# EAGLE library part 62402221722 (library Wurth_Connectors_WR-WTB)
WR-WTB 2.00 mm Male Dual Row Horizontal Shrouded Header w. positive locking KIND PROPERTIES: Pitch:2 mm Gender:Male MATERIAL PROPERTIES: Insulator Material :PBT Insulator Flammability Rating:UL94 V-0 Color:White Contact Material:Copper Alloy Contact Plating:Tin Contact Type:Stamped GENERAL INFORMATION Operating Temperature:-25 up to +85 °C Compliance: RoHS Working Voltage:250V (AC) Withstanding Voltage:1000V (AC) Contact Resistance:20 mΩ RISO:1000 MΩ CERTIFICATION UL Approval:E323964 PACKAGING PROPERTIES Packaging:Tube <https://katalog.we-online.com/media/images/v2/o33359v209%20Family_WR-WTB_6240xx21722.jpg> Details see: https://katalog.we-online.com/en/em/WTB_2_00_MALE_DUAL_ROW_HORIZONTAL_SHROUDED_HEADER_W_POSITIVE_LOCKING_6240XX21722 Updated by Yingchun,Shan 2019-11-08 2019 (C) Würth Elektronik
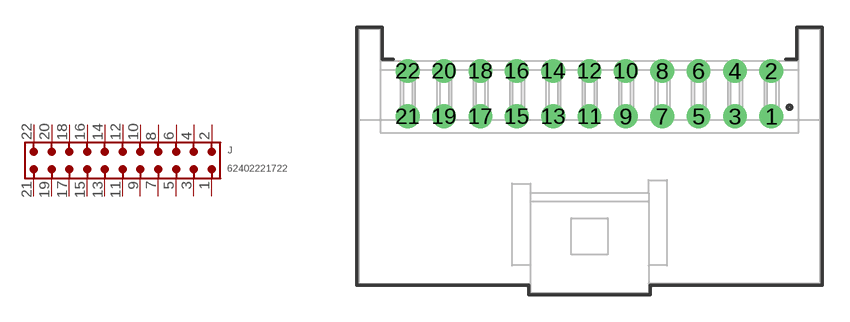
[diagram p63: symbol with the pads of 62402221722; footprint 62402221722]

Designator prefix J

## 62402221722 (CONTACT-RESISTANCE: 20mOhm; DATASHEET-URL: https://www.we-online.com/redexpert/spec/62402221722?ae; GENDER: Male; IR: 3A; L: 25.4mm; MOUNT: THT; PACKAGING: Tube; PART-NUMBER: 62402221722; PCB-CABLE-PANEL: PCB; PINS: 22; PITCH: 2mm; TYPE: Horizontal; VALUE: 62402221722; WORKING-VOLTAGE: 250V(AC))  [62402221722]
1  1  pas
2  2  pas
3  3  pas
4  4  pas
5  5  pas
6  6  pas
7  7  pas
8  8  pas
9  9  pas
10  10  pas
11  11  pas
12  12  pas
13  13  pas
14  14  pas
15  15  pas
16  16  pas
17  17  pas
18  18  pas
19  19  pas
20  20  pas
21  21  pas
22  22  pas

## Footprint 62402221722 (pad centres in mm)
WR-WTB 2.00 mm Male Dual Row Horizontal Shrouded Header w. positive locking, 22 pins
drill 0.8: 1 10,2.2; 2 10,4.7; 3 8,2.2; 4 8,4.7; 5 6,2.2; 6 6,4.7; 7 4,2.2; 8 4,4.7; 9 2,2.2; 10 2,4.7; 11 0,2.2; 12 0,4.7; 13 -2,2.2; 14 -2,4.7; 15 -4,2.2; 16 -4,4.7; 17 -6,2.2; 18 -6,4.7; 19 -8,2.2; 20 -8,4.7; 21 -10,2.2; 22 -10,4.7